# EAGLE library part ERA_16PIN (library ERA)
EuroRack2 - Backplane Connector
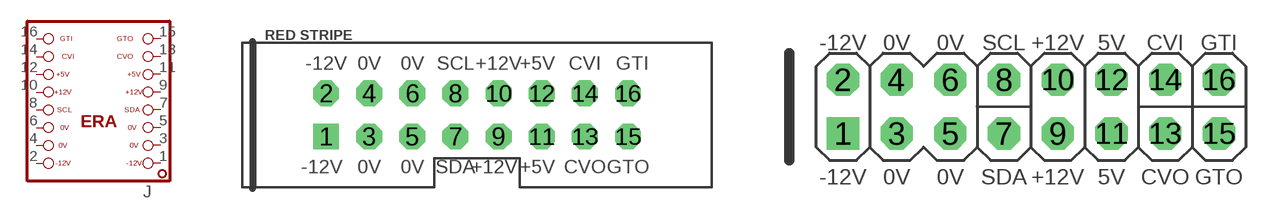
[diagram p0: symbol with the pads of ERA-16; footprints ERA-16, ERA-16-OPEN]

Designator prefix J

## ERA_16PIN-SHROUD  [ERA-16]
1  1  pas
2  2  pas
3  3  pas
4  4  pas
5  5  pas
6  6  pas
7  7  pas
8  8  pas
9  9  pas
10  10  pas
11  11  pas
12  12  pas
13  13  pas
14  14  pas
15  15  pas
16  16  pas

## ERA_16PIN-NOS  [ERA-16-OPEN]
Pads as for ERA-16

## ERA_16PIN-SMD  [ERA-16-SMD]
Pads as for ERA-16

## ERA_16PIN-NOSILK  [ERA-16-NOSILK]
Pads as for ERA-16

## Footprint ERA-16 (pad centres in mm)
drill 1.016 square: 1 -8.89,-1.27
drill 1.016 octagon: 2 -8.89,1.27; 3 -6.35,-1.27; 4 -6.35,1.27; 5 -3.81,-1.27; 6 -3.81,1.27; 7 -1.27,-1.27; 8 -1.27,1.27; 9 1.27,-1.27; 10 1.27,1.27; 11 3.81,-1.27; 12 3.81,1.27; 13 6.35,-1.27; 14 6.35,1.27; 15 8.89,-1.27; 16 8.89,1.27

## Footprint ERA-16-OPEN (pad centres in mm)
drill 1.016 square: 1 -10.16,-1.27
drill 1.016 octagon: 2 -10.16,1.27; 3 -7.62,-1.27; 4 -7.62,1.27; 5 -5.08,-1.27; 6 -5.08,1.27; 7 -2.54,-1.27; 8 -2.54,1.27; 9 0,-1.27; 10 0,1.27; 11 2.54,-1.27; 12 2.54,1.27; 13 5.08,-1.27; 14 5.08,1.27; 15 7.62,-1.27; 16 7.62,1.27

## Footprint ERA-16-SMD (pad centres in mm)
smd 1.016 x 3.15: 1 -10.16,-2.54; 2 -10.16,2.54; 3 -7.62,-2.54; 4 -7.62,2.54; 5 -5.08,-2.54; 6 -5.08,2.54; 7 -2.54,-2.54; 8 -2.54,2.54; 9 0,-2.54; 10 0,2.54; 11 2.54,-2.54; 12 2.54,2.54; 13 5.08,-2.54; 14 5.08,2.54; 15 7.62,-2.54; 16 7.62,2.54

## Footprint ERA-16-NOSILK (pad centres in mm)
drill 1.016 square: 1 -8.89,-1.27
drill 1.016 octagon: 2 -8.89,1.27; 3 -6.35,-1.27; 4 -6.35,1.27; 5 -3.81,-1.27; 6 -3.81,1.27; 7 -1.27,-1.27; 8 -1.27,1.27; 9 1.27,-1.27; 10 1.27,1.27; 11 3.81,-1.27; 12 3.81,1.27; 13 6.35,-1.27; 14 6.35,1.27; 15 8.89,-1.27; 16 8.89,1.27